# EAGLE library part PCF8573 (library PCA9545)
I2C-Bus CLOCK/CALENDAR with power fail detector
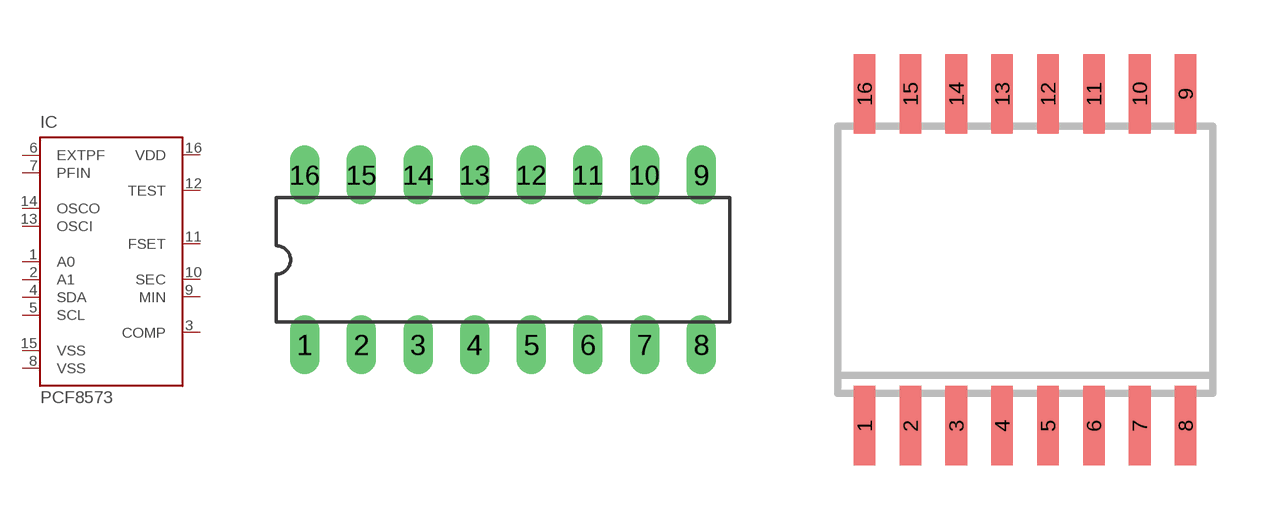
[diagram p6: symbol with the pads of DIL16; footprints DIL16, SO16W]

Designator prefix IC

## PCF8573P (OC_FARNELL: unknown; OC_NEWARK: unknown)  [DIL16]
1  A0  in
2  A1  in
3  COMP  out
4  SDA
5  SCL  in
6  EXTPF  in
7  PFIN  in
8  VSS  pwr
9  MIN  out
10  SEC  out
11  FSET  out
12  TEST  in
13  OSCI  in
14  OSCO  out
15  VSS  pwr
16  VDD  pwr

## PCF8573T (OC_FARNELL: unknown; OC_NEWARK: unknown)  [SO16W]
Pads as for DIL16

## Footprint DIL16 (pad centres in mm)
Dual In Line
drill 0.813 long: 1 -8.89,-3.81; 2 -6.35,-3.81; 3 -3.81,-3.81; 4 -1.27,-3.81; 5 1.27,-3.81; 6 3.81,-3.81; 7 6.35,-3.81; 8 8.89,-3.81; 9 8.89,3.81; 10 6.35,3.81; 11 3.81,3.81; 12 1.27,3.81; 13 -1.27,3.81; 14 -3.81,3.81; 15 -6.35,3.81; 16 -8.89,3.81

## Footprint SO16W (pad centres in mm)
Small Outline Package 7.6 x 10.6 mm
smd 0.6 x 2.2: 1 -4.445,-4.6; 2 -3.175,-4.6; 3 -1.905,-4.6; 4 -0.635,-4.6; 5 0.635,-4.6; 6 1.905,-4.6; 7 3.175,-4.6; 8 4.445,-4.6; 9 4.445,4.6; 10 3.175,4.6; 11 1.905,4.6; 12 0.635,4.6; 13 -0.635,4.6; 14 -1.905,4.6; 15 -3.175,4.6; 16 -4.445,4.6